# Altium schematic symbol library a_Valider_LDG.SchLib: 1 symbol
Pins are listed as number, name and electrical type; pins without a type are passive.

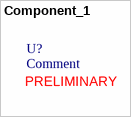
[diagram p0: symbol Component_1]

## Component_1
designator U?, comment Comment
XXX - Description - Package; GRAMS Lib Spec: 2.7
text: PRELIMINARY